# Altium footprint library BGA256N50P16X16.PcbLib: 2 footprints
Each footprint in its own frame and in the unit in brackets; x right, y up, seen from the top. Pads: shape width x height; smd on the part's side, far side on the other; paste and mask are expansions set on the pad; w line width, h text height; cw(c..) or ccw(c..) is an arc to the next point about the centre after c.
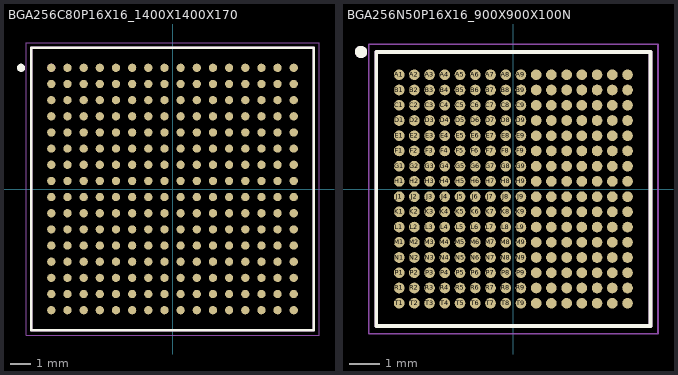
[diagram p0: the footprints below, top view; thin cyan lines are the x and y axes]

## BGA256C80P16X16_1400X1400X170 [mm]
pads (256):
  round 0.41 smd: A1(-6,6) A2(-5.2,6) A3(-4.4,6) A4(-3.6,6) A5(-2.8,6) A6(-2,6) A7(-1.2,6) A8(-0.4,6) A9(0.4,6) A10(1.2,6) A11(2,6) A12(2.8,6) A13(3.6,6) A14(4.4,6) A15(5.2,6) A16(6,6) B1(-6,5.2) B2(-5.2,5.2) B3(-4.4,5.2) B4(-3.6,5.2) B5(-2.8,5.2) B6(-2,5.2) B7(-1.2,5.2) B8(-0.4,5.2) B9(0.4,5.2) B10(1.2,5.2) B11(2,5.2) B12(2.8,5.2) B13(3.6,5.2) B14(4.4,5.2) B15(5.2,5.2) B16(6,5.2) C1(-6,4.4) C2(-5.2,4.4) C3(-4.4,4.4) C4(-3.6,4.4) C5(-2.8,4.4) C6(-2,4.4) C7(-1.2,4.4) C8(-0.4,4.4) C9(0.4,4.4) C10(1.2,4.4) C11(2,4.4) C12(2.8,4.4) C13(3.6,4.4) C14(4.4,4.4) C15(5.2,4.4) C16(6,4.4) D1(-6,3.6) D2(-5.2,3.6) D3(-4.4,3.6) D4(-3.6,3.6) D5(-2.8,3.6) D6(-2,3.6) D7(-1.2,3.6) D8(-0.4,3.6) D9(0.4,3.6) D10(1.2,3.6) D11(2,3.6) D12(2.8,3.6) D13(3.6,3.6) D14(4.4,3.6) D15(5.2,3.6) D16(6,3.6) E1(-6,2.8) E2(-5.2,2.8) E3(-4.4,2.8) E4(-3.6,2.8) E5(-2.8,2.8) E6(-2,2.8) E7(-1.2,2.8) E8(-0.4,2.8) E9(0.4,2.8) E10(1.2,2.8) E11(2,2.8) E12(2.8,2.8) E13(3.6,2.8) E14(4.4,2.8) E15(5.2,2.8) E16(6,2.8) F1(-6,2) F2(-5.2,2) F3(-4.4,2) F4(-3.6,2) F5(-2.8,2) F6(-2,2) F7(-1.2,2) F8(-0.4,2) F9(0.4,2) F10(1.2,2) F11(2,2) F12(2.8,2) F13(3.6,2) F14(4.4,2) F15(5.2,2) F16(6,2) G1(-6,1.2) G2(-5.2,1.2) G3(-4.4,1.2) G4(-3.6,1.2) G5(-2.8,1.2) G6(-2,1.2) G7(-1.2,1.2) G8(-0.4,1.2) G9(0.4,1.2) G10(1.2,1.2) G11(2,1.2) G12(2.8,1.2) G13(3.6,1.2) G14(4.4,1.2) G15(5.2,1.2) G16(6,1.2) H1(-6,0.4) H2(-5.2,0.4) H3(-4.4,0.4) H4(-3.6,0.4) H5(-2.8,0.4) H6(-2,0.4) H7(-1.2,0.4) H8(-0.4,0.4) H9(0.4,0.4) H10(1.2,0.4) H11(2,0.4) H12(2.8,0.4) H13(3.6,0.4) H14(4.4,0.4) H15(5.2,0.4) H16(6,0.4) J1(-6,-0.4) J2(-5.2,-0.4) J3(-4.4,-0.4) J4(-3.6,-0.4) J5(-2.8,-0.4) J6(-2,-0.4) J7(-1.2,-0.4) J8(-0.4,-0.4) J9(0.4,-0.4) J10(1.2,-0.4) J11(2,-0.4) J12(2.8,-0.4) J13(3.6,-0.4) J14(4.4,-0.4) J15(5.2,-0.4) J16(6,-0.4) K1(-6,-1.2) K2(-5.2,-1.2) K3(-4.4,-1.2) K4(-3.6,-1.2) K5(-2.8,-1.2) K6(-2,-1.2) K7(-1.2,-1.2) K8(-0.4,-1.2) K9(0.4,-1.2) K10(1.2,-1.2) K11(2,-1.2) K12(2.8,-1.2) K13(3.6,-1.2) K14(4.4,-1.2) K15(5.2,-1.2) K16(6,-1.2) L1(-6,-2) L2(-5.2,-2) L3(-4.4,-2) L4(-3.6,-2) L5(-2.8,-2) L6(-2,-2) L7(-1.2,-2) L8(-0.4,-2) L9(0.4,-2) L10(1.2,-2) L11(2,-2) L12(2.8,-2) L13(3.6,-2) L14(4.4,-2) L15(5.2,-2) L16(6,-2) M1(-6,-2.8) M2(-5.2,-2.8) M3(-4.4,-2.8) M4(-3.6,-2.8) M5(-2.8,-2.8) M6(-2,-2.8) M7(-1.2,-2.8) M8(-0.4,-2.8) M9(0.4,-2.8) M10(1.2,-2.8) M11(2,-2.8) M12(2.8,-2.8) M13(3.6,-2.8) M14(4.4,-2.8) M15(5.2,-2.8) M16(6,-2.8) N1(-6,-3.6) N2(-5.2,-3.6) N3(-4.4,-3.6) N4(-3.6,-3.6) N5(-2.8,-3.6) N6(-2,-3.6) N7(-1.2,-3.6) N8(-0.4,-3.6) N9(0.4,-3.6) N10(1.2,-3.6) N11(2,-3.6) N12(2.8,-3.6) N13(3.6,-3.6) N14(4.4,-3.6) N15(5.2,-3.6) N16(6,-3.6) P1(-6,-4.4) P2(-5.2,-4.4) P3(-4.4,-4.4) P4(-3.6,-4.4) P5(-2.8,-4.4) P6(-2,-4.4) P7(-1.2,-4.4) P8(-0.4,-4.4) P9(0.4,-4.4) P10(1.2,-4.4) P11(2,-4.4) P12(2.8,-4.4) P13(3.6,-4.4) P14(4.4,-4.4) P15(5.2,-4.4) P16(6,-4.4) R1(-6,-5.2) R2(-5.2,-5.2) R3(-4.4,-5.2) R4(-3.6,-5.2) R5(-2.8,-5.2) R6(-2,-5.2) R7(-1.2,-5.2) R8(-0.4,-5.2) R9(0.4,-5.2) R10(1.2,-5.2) R11(2,-5.2) R12(2.8,-5.2) R13(3.6,-5.2) R14(4.4,-5.2) R15(5.2,-5.2) R16(6,-5.2) T1(-6,-6) T2(-5.2,-6) T3(-4.4,-6) T4(-3.6,-6) T5(-2.8,-6) T6(-2,-6) T7(-1.2,-6) T8(-0.4,-6) T9(0.4,-6) T10(1.2,-6) T11(2,-6) T12(2.8,-6) T13(3.6,-6) T14(4.4,-6) T15(5.2,-6) T16(6,-6)
Top Overlay:
  circle w0.2: c-7.5,6 r0.1
  lines w0.127: -7,-7 7,-7 7,7 -7,7 -7,-7
Mechanical 4:
  circle w0.2: c-6,6 r0.1
  circle w0.2: c-6,6 r0.1
  lines w0.127: -7,-7 7,-7 ; -7,-7 -7,7 ; -7,-7 7,-7 ; -7,-7 -7,7 ; -7,7 7,7 ; -7,7 7,7 ; 7,-7 7,7 ; 7,-7 7,7
Mechanical 16:
  lines w0.05: -7.25,-7.25 7.25,-7.25 7.25,7.25 -7.25,7.25 -7.25,-7.25

## BGA256N50P16X16_900X900X100N [mm]
pads (256):
  round 0.35 smd: A1(-3.75,3.75) A2(-3.25,3.75) A3(-2.75,3.75) A4(-2.25,3.75) A5(-1.75,3.75) A6(-1.25,3.75) A7(-0.75,3.75) A8(-0.25,3.75) A9(0.25,3.75) A10(0.75,3.75) A11(1.25,3.75) A12(1.75,3.75) A13(2.25,3.75) A14(2.75,3.75) A15(3.25,3.75) A16(3.75,3.75) B1(-3.75,3.25) B2(-3.25,3.25) B3(-2.75,3.25) B4(-2.25,3.25) B5(-1.75,3.25) B6(-1.25,3.25) B7(-0.75,3.25) B8(-0.25,3.25) B9(0.25,3.25) B10(0.75,3.25) B11(1.25,3.25) B12(1.75,3.25) B13(2.25,3.25) B14(2.75,3.25) B15(3.25,3.25) B16(3.75,3.25) C1(-3.75,2.75) C2(-3.25,2.75) C3(-2.75,2.75) C4(-2.25,2.75) C5(-1.75,2.75) C6(-1.25,2.75) C7(-0.75,2.75) C8(-0.25,2.75) C9(0.25,2.75) C10(0.75,2.75) C11(1.25,2.75) C12(1.75,2.75) C13(2.25,2.75) C14(2.75,2.75) C15(3.25,2.75) C16(3.75,2.75) D1(-3.75,2.25) D2(-3.25,2.25) D3(-2.75,2.25) D4(-2.25,2.25) D5(-1.75,2.25) D6(-1.25,2.25) D7(-0.75,2.25) D8(-0.25,2.25) D9(0.25,2.25) D10(0.75,2.25) D11(1.25,2.25) D12(1.75,2.25) D13(2.25,2.25) D14(2.75,2.25) D15(3.25,2.25) D16(3.75,2.25) E1(-3.75,1.75) E2(-3.25,1.75) E3(-2.75,1.75) E4(-2.25,1.75) E5(-1.75,1.75) E6(-1.25,1.75) E7(-0.75,1.75) E8(-0.25,1.75) E9(0.25,1.75) E10(0.75,1.75) E11(1.25,1.75) E12(1.75,1.75) E13(2.25,1.75) E14(2.75,1.75) E15(3.25,1.75) E16(3.75,1.75) F1(-3.75,1.25) F2(-3.25,1.25) F3(-2.75,1.25) F4(-2.25,1.25) F5(-1.75,1.25) F6(-1.25,1.25) F7(-0.75,1.25) F8(-0.25,1.25) F9(0.25,1.25) F10(0.75,1.25) F11(1.25,1.25) F12(1.75,1.25) F13(2.25,1.25) F14(2.75,1.25) F15(3.25,1.25) F16(3.75,1.25) G1(-3.75,0.75) G2(-3.25,0.75) G3(-2.75,0.75) G4(-2.25,0.75) G5(-1.75,0.75) G6(-1.25,0.75) G7(-0.75,0.75) G8(-0.25,0.75) G9(0.25,0.75) G10(0.75,0.75) G11(1.25,0.75) G12(1.75,0.75) G13(2.25,0.75) G14(2.75,0.75) G15(3.25,0.75) G16(3.75,0.75) H1(-3.75,0.25) H2(-3.25,0.25) H3(-2.75,0.25) H4(-2.25,0.25) H5(-1.75,0.25) H6(-1.25,0.25) H7(-0.75,0.25) H8(-0.25,0.25) H9(0.25,0.25) H10(0.75,0.25) H11(1.25,0.25) H12(1.75,0.25) H13(2.25,0.25) H14(2.75,0.25) H15(3.25,0.25) H16(3.75,0.25) J1(-3.75,-0.25) J2(-3.25,-0.25) J3(-2.75,-0.25) J4(-2.25,-0.25) J5(-1.75,-0.25) J6(-1.25,-0.25) J7(-0.75,-0.25) J8(-0.25,-0.25) J9(0.25,-0.25) J10(0.75,-0.25) J11(1.25,-0.25) J12(1.75,-0.25) J13(2.25,-0.25) J14(2.75,-0.25) J15(3.25,-0.25) J16(3.75,-0.25) K1(-3.75,-0.75) K2(-3.25,-0.75) K3(-2.75,-0.75) K4(-2.25,-0.75) K5(-1.75,-0.75) K6(-1.25,-0.75) K7(-0.75,-0.75) K8(-0.25,-0.75) K9(0.25,-0.75) K10(0.75,-0.75) K11(1.25,-0.75) K12(1.75,-0.75) K13(2.25,-0.75) K14(2.75,-0.75) K15(3.25,-0.75) K16(3.75,-0.75) L1(-3.75,-1.25) L2(-3.25,-1.25) L3(-2.75,-1.25) L4(-2.25,-1.25) L5(-1.75,-1.25) L6(-1.25,-1.25) L7(-0.75,-1.25) L8(-0.25,-1.25) L9(0.25,-1.25) L10(0.75,-1.25) L11(1.25,-1.25) L12(1.75,-1.25) L13(2.25,-1.25) L14(2.75,-1.25) L15(3.25,-1.25) L16(3.75,-1.25) M1(-3.75,-1.75) M2(-3.25,-1.75) M3(-2.75,-1.75) M4(-2.25,-1.75) M5(-1.75,-1.75) M6(-1.25,-1.75) M7(-0.75,-1.75) M8(-0.25,-1.75) M9(0.25,-1.75) M10(0.75,-1.75) M11(1.25,-1.75) M12(1.75,-1.75) M13(2.25,-1.75) M14(2.75,-1.75) M15(3.25,-1.75) M16(3.75,-1.75) N1(-3.75,-2.25) N2(-3.25,-2.25) N3(-2.75,-2.25) N4(-2.25,-2.25) N5(-1.75,-2.25) N6(-1.25,-2.25) N7(-0.75,-2.25) N8(-0.25,-2.25) N9(0.25,-2.25) N10(0.75,-2.25) N11(1.25,-2.25) N12(1.75,-2.25) N13(2.25,-2.25) N14(2.75,-2.25) N15(3.25,-2.25) N16(3.75,-2.25) P1(-3.75,-2.75) P2(-3.25,-2.75) P3(-2.75,-2.75) P4(-2.25,-2.75) P5(-1.75,-2.75) P6(-1.25,-2.75) P7(-0.75,-2.75) P8(-0.25,-2.75) P9(0.25,-2.75) P10(0.75,-2.75) P11(1.25,-2.75) P12(1.75,-2.75) P13(2.25,-2.75) P14(2.75,-2.75) P15(3.25,-2.75) P16(3.75,-2.75) R1(-3.75,-3.25) R2(-3.25,-3.25) R3(-2.75,-3.25) R4(-2.25,-3.25) R5(-1.75,-3.25) R6(-1.25,-3.25) R7(-0.75,-3.25) R8(-0.25,-3.25) R9(0.25,-3.25) R10(0.75,-3.25) R11(1.25,-3.25) R12(1.75,-3.25) R13(2.25,-3.25) R14(2.75,-3.25) R15(3.25,-3.25) R16(3.75,-3.25) T1(-3.75,-3.75) T2(-3.25,-3.75) T3(-2.75,-3.75) T4(-2.25,-3.75) T5(-1.75,-3.75) T6(-1.25,-3.75) T7(-0.75,-3.75) T8(-0.25,-3.75) T9(0.25,-3.75) T10(0.75,-3.75) T11(1.25,-3.75) T12(1.75,-3.75) T13(2.25,-3.75) T14(2.75,-3.75) T15(3.25,-3.75) T16(3.75,-3.75)
Top Overlay:
  circle w0.2: c-5,4.5 r0.1
  lines w0.127: -4.5,-4.5 -4.5,4.5 4.5,4.5 4.5,-4.5 -4.5,-4.5
Mechanical 4:
  circle w0.2: c-5,4.5 r0.1
  circle w0.2: c-5,4.5 r0.1
  lines w0.127: -4.5,-4.5 -4.5,4.5 ; -4.5,-4.5 4.5,-4.5 ; -4.5,-4.5 -4.5,4.5 ; -4.5,-4.5 4.5,-4.5 ; -4.5,4.5 4.5,4.5 ; -4.5,4.5 4.5,4.5 ; 4.5,-4.5 4.5,4.5 ; 4.5,-4.5 4.5,4.5
Mechanical 16:
  lines w0.05: -4.75,-4.75 -4.75,4.75 4.75,4.75 4.75,-4.75 -4.75,-4.75